# Altium footprint library WL-SFCD.PcbLib: 3 footprints
Each footprint in its own frame and in the unit in brackets; x right, y up, seen from the top. Pads: shape width x height; smd on the part's side, far side on the other; paste and mask are expansions set on the pad; w line width, h text height; cw(c..) or ccw(c..) is an arc to the next point about the centre after c.
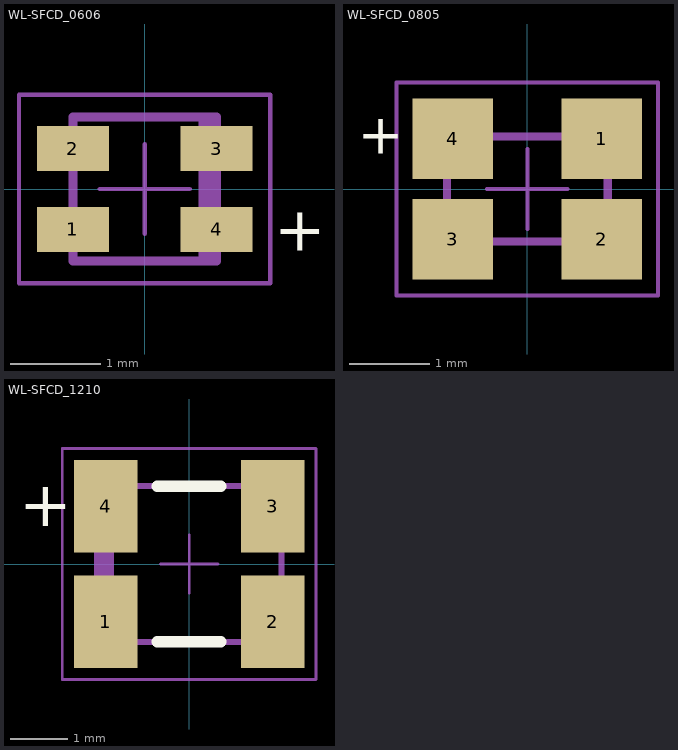
[diagram p0: the footprints below, top view; thin cyan lines are the x and y axes]

## WL-SFCD_0606 [mm] "SMD Full-color Chip LED Diffused, body 1.6x1.6mm"
height 0.4
pads (4):
  rect 0.8x0.5 smd: 1(-0.8,-0.45) 2(-0.8,0.45) 3(0.8,0.45) 4(0.8,-0.45)
Top Overlay:
  text "+" at 1.44,-0.687 h0.5
Top Designator:
  text ".Designator" at -2.499,-0.167 h0.5
Top Component Outline:
  rectangle: 0.6,-0.8 0.8,0.8
  lines w0.1: -0.8,-0.8 -0.8,0.8 0.8,0.8 0.8,-0.8 -0.8,-0.8
Top Courtyard:
  lines w0.05: -0.5,0 0.5,0 ; 0,-0.5 0,0.5 ; -1.4,-1.05 -1.4,1.05 1.4,1.05 1.4,-1.05 -1.4,-1.05
3D body "150066M153000.stp": height 0.4, standoff 0, extent -0.8,-0.8 0.8,0.8

## WL-SFCD_0805 [mm] "SMD Full-color Chip LED Diffused, body 2x1.3mm"
height 0.5
pads (4):
  rect 1x1 smd: 1(0.925,0.625) 2(0.925,-0.625) 3(-0.925,-0.625) 4(-0.925,0.625)
Top Overlay:
  text "+" at -2.105,0.438 h0.5
Top Designator:
  text ".Designator" at -2.499,-0.167 h0.5
Top Component Outline:
  lines w0.1: -1,-0.65 -1,0.65 1,0.65 1,-0.65 -1,-0.65
Top Courtyard:
  lines w0.05: -0.5,0 0.5,0 ; 0,-0.5 0,0.5 ; -1.625,-1.325 1.625,-1.325 1.625,1.325 -1.625,1.325 -1.625,-1.325
3D body "150080M153000.stp": height 0.5, standoff 0, extent -1,-0.65 1,0.65

## WL-SFCD_1210 [mm] "SMD Full-color Chip LED Diffused, body 3.2x2.7mm"
height 1.1
pads (4):
  rect 1.1x1.6 smd: 1(-1.45,-1) 2(1.45,-1) 3(1.45,1) 4(-1.45,1)
Top Overlay:
  lines w0.2: -0.55,-1.35 0.55,-1.35 ; -0.55,1.35 0.55,1.35
  text "+" at -2.95,0.65 h0.8
Top Designator:
  text ".Designator" at -3.499,-0.233 h0.7
Top Component Outline:
  rectangle: -1.6,-1.35 -1.3,1.35
  lines w0.1: -1.6,-1.35 1.6,-1.35 1.6,1.35 -1.6,1.35 -1.6,-1.35
Top Courtyard:
  lines w0.05: -0.5,0 0.5,0 ; 0,-0.5 0,0.5 ; -2.2,-2 -2.2,2 2.2,2 2.2,-2 -2.2,-2
3D body "150121M153000.stp": height 1.08, standoff -0.02, extent -1.6,-1.35 1.6,1.35